# Altium footprint library 000.000.001 rev.1.PcbLib: 25 footprints (part 1 of 2)
Each footprint in its own frame and in the unit in brackets; x right, y up, seen from the top. Pads: shape width x height; smd on the part's side, far side on the other; paste and mask are expansions set on the pad; w line width, h text height; cw(c..) or ccw(c..) is an arc to the next point about the centre after c.
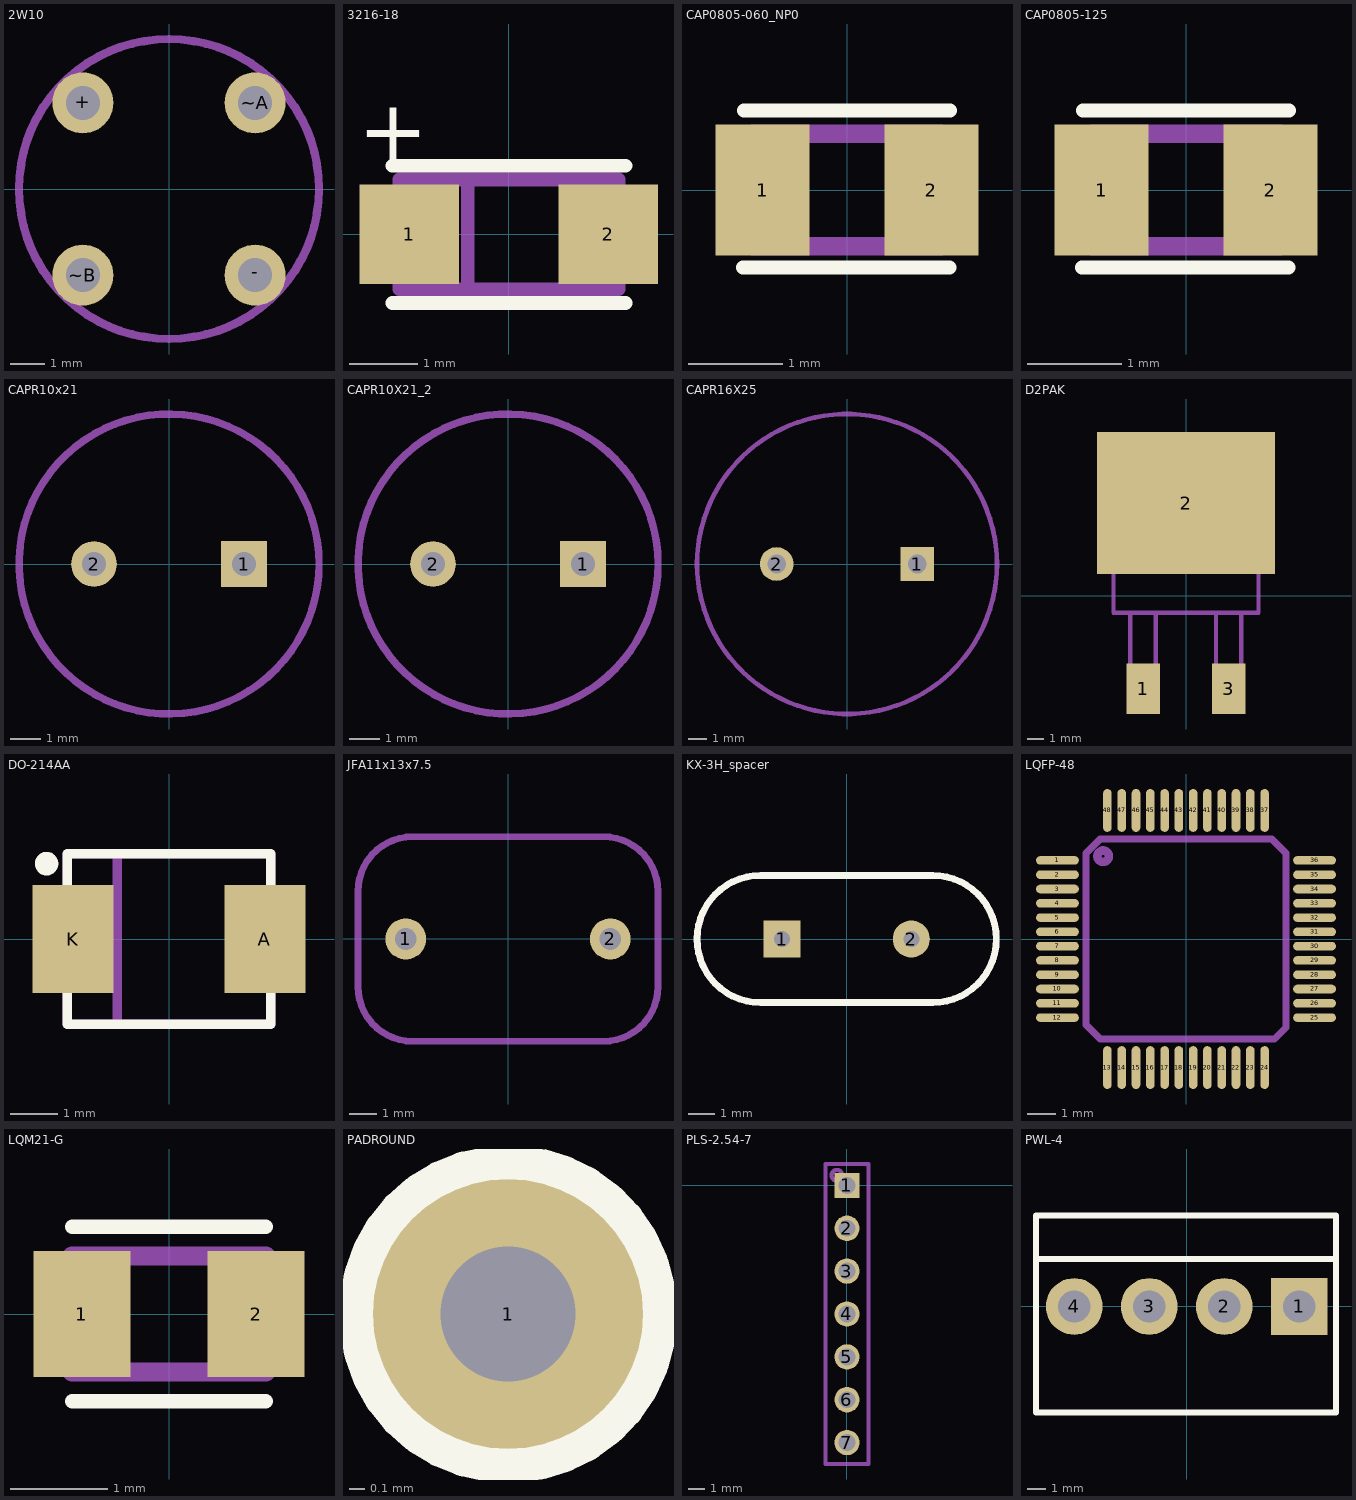
[diagram p0: the footprints below, top view; thin cyan lines are the x and y axes]

## 2W10 [mm]
pads (4):
  round 1.8 hole 1: +(-2.54,2.54) -(2.54,-2.54) ~A(2.54,2.54) ~B(-2.54,-2.54)
Top Assembly:
  circle w0.25: c0,0 r4.425
  text "+" at -2.7,1.9 h2.5
  text "-" at 2.1,-3 h2.5
3D body "User Library-Silicon Bridge Rectifiers 2W10.step": height 7.3, standoff -10.7, extent -4.5,-4.5 4.5,4.5

## 3216-18 [mm] "Case A Tantalum"
height 1.6
pads (2):
  rect 1.45x1.45 smd: 1(-1.45,0) 2(1.45,0)
Top Overlay:
  lines w0.2: -1.7,-1 1.7,-1 ; -1.7,1 1.7,1
  text "+" at -2.2,0.8 h1.52
Top Assembly:
  lines w0.2: -0.6,-0.8 -0.6,0.8 ; -1.6,-0.8 1.6,-0.8 1.6,0.8 -1.6,0.8 -1.6,-0.8
  text ".Designator" at -1.524,1.524 h1.8
3D body "3216-18.stp": height 1.53, standoff -0.08, extent -1.6,-0.8 1.6,0.8

## CAP0805-060_NP0 [mm] "Chip capacitor, Body 2.0x1.2mm"
height 0.6
pads (2):
  rect 1x1.4 smd: 1(-0.9,0) 2(0.9,0)
Top Overlay:
  lines w0.15: -1.109,-0.828 1.091,-0.828 ; -1.1,0.85 1.1,0.85
Top Assembly:
  lines w0.2: 1,-0.6 1,-0.6 ; 1,-0.6 -1,-0.6 -1,0.6 1,0.6 1,-0.6
  text ".Designator" at -0.05,0.975 h1.8
3D body "CC0805_NP0.stp": height 0.52, standoff -0.08, extent -1,-0.625 1,0.625

## CAP0805-125 [mm] "Chip capacitor, Body 2.0x1.2mm 1.25 mm thickness"
height 1.25
pads (2):
  rect 1x1.4 smd: 1(-0.9,0) 2(0.9,0)
Top Overlay:
  lines w0.15: -1.109,-0.828 1.091,-0.828 ; -1.1,0.85 1.1,0.85
Top Assembly:
  lines w0.2: 1,-0.6 1,0.6 -1,0.6 -1,-0.6 1,-0.6 ; 1,-0.6 1,-0.6
  text ".Designator" at -0.05,0.975 h1.8
3D body "User Library-CAPC2012X140.step": height 1.42, standoff 0, extent -1,-0.635 1,0.635
3D body "GRM21-125.stp": height 1.17, standoff -0.08, extent -1,-0.625 1,0.625

## CAPR10x21 [mm] "Pitch 5.0"
height 21
pads (2):
  rect 1.524x1.524 hole 0.8: 1(2.5,0)
  round 1.524 hole 0.8: 2(-2.5,0)
Top Assembly:
  circle w0.25: c0,0 r5
  text "+" at 3.7,-0.4 h1.8
3D body "User Library-Cap electrolitic radial 10x21.STEP": height 21.05, standoff -1.45, extent -4.998,-4.998 4.998,4.999

## CAPR10X21_2 [mm]
pads (2):
  rect 1.524x1.524 hole 0.8: 1(2.5,0)
  round 1.524 hole 0.8: 2(-2.5,0)
Top Assembly:
  circle w0.25: c0,0 r5
  text "+" at 3.7,-0.4 h1.8
3D body "User Library-Cap electrolitic radial 10x21.STEP": height 21.05, standoff -1.45, extent -4.998,-4.998 4.998,4.999

## CAPR16X25 [mm] "Pitch 7.5"
height 25
pads (2):
  rect 1.8x1.8 hole 1: 1(3.75,0)
  round 1.8 hole 1: 2(-3.75,0)
Top Assembly:
  circle w0.25: c0,0 r8
  text "+" at 6.2,-0.3 h1.8
3D body "User Library-CAPAER_D160_L255_P075_W008X030.STEP": height 25.51, standoff -3, extent -8.01,-8 8,8

## D2PAK [mm] "D2-PAK/TO-263-AB; 3 Leads (1 Cropped); Body 15.5 (inc. leads) x 10.5 mm (LxW max)"
height 4.69
pads (3):
  rect 2x3 smd: 1(-2.54,-5.5) 3(2.54,-5.5)
  rect 10.55x8.4 smd: 2(0,5.5)
Top Assembly:
  lines w0.254: -4.3,7.6 4.3,7.6 ; -3.3,-1 -3.3,-6.3 -1.8,-6.3 -1.8,-1 ; 1.78,-1 1.78,-6.3 3.28,-6.3 3.28,-1 ; -4.3,-1 -4.3,7.8 -3.2,8.9 3.1,8.9 4.3,7.7 4.3,-1 -4.3,-1
3D body "User Library-DPAK.step": height 4.88, standoff -0.13, extent -5.08,-6.5 5.08,8.764

## DO-214AA [mm] "Diode"
height 2.2
pads (2):
  rect 1.72x2.3 smd: A(2.035,0) K(-2.035,0)
Top Overlay:
  circle w0.25: c-2.6,1.6 r0.125
  lines w0.2: -2.163,-1.813 -2.163,1.813 2.163,1.813 2.163,-1.813 -2.163,-1.813
Top Assembly:
  lines w0.2: -1.1,-1.813 -1.1,1.813 ; -2.163,-1.813 -2.163,1.813 2.163,1.813 2.163,-1.813 -2.163,-1.813
  text ".Designator" at -0.8,2.7 h1.8
3D body "User Library-DO-214AA_SMB.step": height 2.2, standoff -0.05, extent -2.65,-1.85 2.65,1.85

## JFA11x13x7.5 [mm] "JFA Mylar capacitor"
height 13
pads (2):
  round 1.5 hole 0.8: 1(-3.75,0) 2(3.75,0)
Top Assembly:
  lines w0.25: -5.5,-1.75 ccw(c-3.5,-1.75) -3.5,-3.75 3.5,-3.75 ccw(c3.5,-1.75) 5.5,-1.75 5.5,1.75 ccw(c3.5,1.75) 3.5,3.75 -3.499,3.75 ; -5.499,-1.748 -5.5,-1.746 -5.5,1.75 cw(c-3.5,1.75) -3.5,3.75 ; -3.5,3.749 -3.499,3.75
  text ".Designator" at -1.675,4.55 h1.8
3D body "JFA11x13x7.5.stp": height 15, standoff -3, extent -5.5,-3.75 5.5,3.75

## KX-3H_spacer [mm] "Quartz resonator with spacer"
height 4.4
pads (2):
  rect 1.4x1.4 hole 0.6: 1(-2.44,0)
  round 1.4 hole 0.6: 2(2.44,0)
Top Overlay:
  lines w0.254: -3.25,-2.4 cw(c-3.25,0) -3.25,2.4 3.25,2.4 cw(c3.25,0) 3.25,-2.4 -3.25,-2.4
Top Assembly:
  lines w0.2: -3.225,-2.4 cw(c-3.225,0) -3.225,2.4 3.275,2.4 cw(c3.275,0) 3.275,-2.4 -3.225,-2.4
  text ".Designator" at -0.25,3.175 h1.8
3D body "KX-3H с прокладкой.stp": height 4.6, standoff -3.1, extent -5.68,-2.5 5.68,2.5

## LQFP-48 [mm]
pads (48):
  oval 1.5x0.3 smd: 1(-4.5,2.75) 2(-4.5,2.25) 3(-4.5,1.75) 4(-4.5,1.25) 5(-4.5,0.75) 6(-4.5,0.25) 7(-4.5,-0.25) 8(-4.5,-0.75) 9(-4.5,-1.25) 10(-4.5,-1.75) 11(-4.5,-2.25) 12(-4.5,-2.75) 25(4.5,-2.75) 26(4.5,-2.25) 27(4.5,-1.75) 28(4.5,-1.25) 29(4.5,-0.75) 30(4.5,-0.25) 31(4.5,0.25) 32(4.5,0.75) 33(4.5,1.25) 34(4.5,1.75) 35(4.5,2.25) 36(4.5,2.75)
  oval 0.3x1.5 smd: 13(-2.75,-4.5) 14(-2.25,-4.5) 15(-1.75,-4.5) 16(-1.25,-4.5) 17(-0.75,-4.5) 18(-0.25,-4.5) 19(0.25,-4.5) 20(0.75,-4.5) 21(1.25,-4.5) 22(1.75,-4.5) 23(2.25,-4.5) 24(2.75,-4.5) 37(2.75,4.5) 38(2.25,4.5) 39(1.75,4.5) 40(1.25,4.5) 41(0.75,4.5) 42(0.25,4.5) 43(-0.25,4.5) 44(-0.75,4.5) 45(-1.25,4.5) 46(-1.75,4.5) 47(-2.25,4.5) 48(-2.75,4.5)
Top Assembly:
  circle w0.3: c-2.9,2.9 r0.2
  lines w0.25: -3.5,-3 -3.5,3 -3,3.5 3,3.5 3.5,3 3.5,-3.1 3.1,-3.5 -3,-3.5 ; -3.5,-3 -3,-3.5 ; -3.5,-3 -3,-3.5
3D body "User Library-LQFP48.step": height 1.5, standoff 0, extent -4.5,-4.5 4.5,4.5

## LQM21-G [mm] "Inductor"
height 0.9
pads (2):
  rect 1x1.3 smd: 1(-0.9,0) 2(0.9,0)
Top Overlay:
  lines w0.15: -1,-0.9 1,-0.9 ; -1,0.9 1,0.9
Top Assembly:
  lines w0.2: -1,-0.6 -1,0.6 1,0.6 1,-0.6 -1,-0.6
  text ".Designator" at -0.3,1.1 h1.8
3D body "LQM21-G.stp": height 0.82, standoff -0.08, extent -1,-0.625 1,0.625

## PADROUND [mm] "Pad Round"
pads (1):
  round 1.8 hole 0.9: 1(0,0)
Top Overlay:
  circle w0.254: c0,0 r1
Top Assembly:
  circle w0.2: c0,0 r0.5
  text ".Designator" at -0.125,1.15 h1.8

## PLS-2.54-7 [mm]
pads (7):
  rect 1.5x1.5 hole 1: 1(0,0)
  round 1.5 hole 1: 2(0,-2.54) 3(0,-5.08) 4(0,-7.62) 5(0,-10.16) 6(0,-12.7) 7(0,-15.24)
Top Assembly:
  circle w0.254: c-0.6,0.6 r0.316
  lines w0.254: -1.27,-16.51 -1.27,1.27 1.27,1.27 1.27,-16.51 -1.27,-16.51
3D body "PLS-7.stp": height 8.54, standoff -3, extent -1.27,-16.51 1.27,1.27

## PWL-4 [mm] "3.96"
height 14.7
pads (4):
  rect 3x3 hole 1.7: 1(5.94,0)
  round 3 hole 1.7: 2(1.98,0) 3(-1.98,0) 4(-5.94,0)
Top Overlay:
  lines w0.3: -7.96,2.5 7.88,2.5 ; -7.96,-5.6 7.88,-5.6 7.88,4.8 -7.96,4.8 -7.96,-5.6
Top Assembly:
  circle w0.254: c6.54,0.4 r0.3
  lines w0.254: -7.86,2.5 7.88,2.5 ; -7.96,-5.6 -7.96,4.8 7.88,4.8 7.88,-5.6 ; -7.96,-5.6 -7.96,-5.6 ; -7.96,-5.6 7.88,-5.6 ; 7.88,-5.6 7.88,-5.6
3D body "User Library-PWL-4.step": height 13.8, standoff -3.6, extent -7.949,-5.588 7.891,4.812